# Altium footprint library Miscellaneous Devices.PcbLib: 16 footprints
Each footprint in its own frame and in the unit in brackets; x right, y up, seen from the top. Pads: shape width x height; smd on the part's side, far side on the other; paste and mask are expansions set on the pad; w line width, h text height; cw(c..) or ccw(c..) is an arc to the next point about the centre after c.
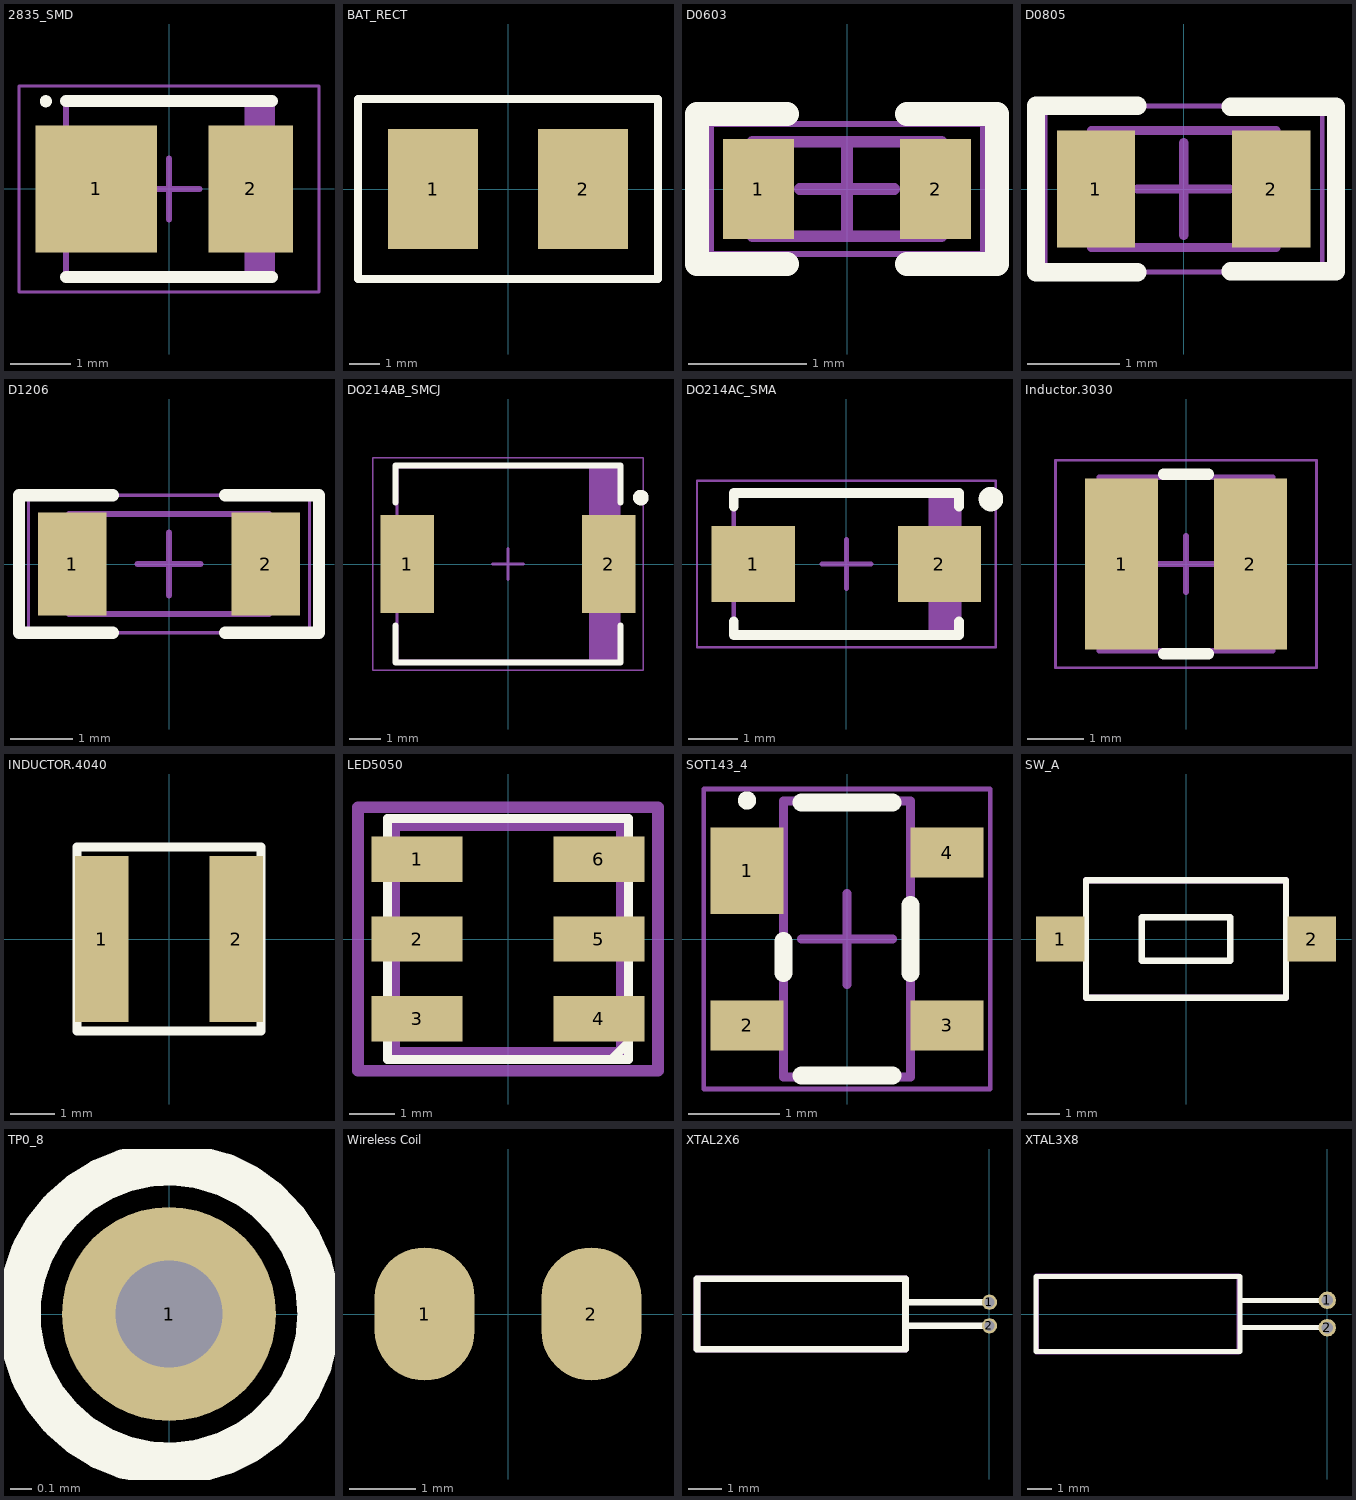
[diagram p0: the footprints below, top view; thin cyan lines are the x and y axes]

## 2835_SMD [mm] "Molded Diode, 2-Leads, Body 3.30x2.80mm, IPC Medium Density"
height 0.75
pads (2):
  rect 2x2.1 smd mask+0.05: 1(-1.2,0)
  rect 1.4x2.1 smd mask+0.05: 2(1.35,0)
Top Overlay:
  circle w0.1: c-2.032,1.448 r0.05
  lines w0.2: -1.7,-1.45 1.7,-1.45 ; -1.7,1.45 1.7,1.45
Mechanical 13:
  rectangle: 1.243,-1.45 1.7,1.45
  lines w0.1: -1.7,-1.45 1.7,-1.45 1.7,1.45 -1.7,1.45 -1.7,-1.45
Mechanical 15:
  lines w0.05: -2.475,-1.7 2.475,-1.7 2.475,1.7 -2.475,1.7 -2.475,-1.7
  lines w0.1: -0.5,0 0.5,0 ; 0,-0.5 0,0.5
3D body: height 0.75, standoff 0, extent -1.7,-1.45 1.7,1.45

## BAT_RECT [mm] "BAT_RECT"
pads (2):
  rect 3x4 smd: 1(-2.5,0) 2(2.5,0)
Top Overlay:
  lines w0.254: -5,-3 -5,3 5,3 5,-3 -5,-3

## D0603 [mm] "D0603"
height 0.5
pads (2):
  rect 0.6x0.85 smd: 1(-0.75,0) 2(0.75,0)
Top Overlay:
  lines w0.2: -0.508,-0.635 -1.27,-0.635 -1.27,0.635 -0.508,0.635 ; 0.508,-0.635 1.27,-0.635 1.27,0.635 0.508,0.635
Mechanical 13:
  lines w0.1: -0.8,-0.4 0.8,-0.4 0.8,0.4 -0.8,0.4 -0.8,-0.4
Mechanical 15:
  lines w0.05: -1.15,-0.55 1.15,-0.55 1.15,0.55 -1.15,0.55 -1.15,-0.55
  lines w0.1: -0.4,0 0.4,0 ; 0,-0.4 0,0.4
3D body: height 0.5, standoff 0, extent 0.5,-0.4 0.8,0.4
3D body: height 0.5, standoff 0, extent -0.8,-0.4 -0.5,0.4
3D body: height 0.5, standoff 0, extent -0.5,-0.4 0.5,0.4

## D0805 [mm] "D0805"
height 1.25
pads (2):
  rect 0.85x1.27 smd: 1(-0.95,0) 2(0.95,0)
Top Overlay:
  lines w0.2: -0.5,-0.9 -1.6,-0.9 -1.6,0.9 -0.5,0.9 ; 0.508,-0.889 1.651,-0.889 1.651,0.889 0.508,0.889
Mechanical 13:
  lines w0.1: -1,-0.635 -1,0.635 1,0.635 1,-0.635 -1,-0.635
Mechanical 15:
  lines w0.05: -1.5,-0.9 -1.5,0.9 1.5,0.9 1.5,-0.9 -1.5,-0.9
  lines w0.1: -0.5,0 0.5,0 ; 0,-0.5 0,0.5
3D body: height 1.25, standoff 0, extent -0.55,-0.635 0.55,0.635
3D body: height 1.25, standoff 0, extent -1,-0.635 -0.55,0.635
3D body: height 1.25, standoff 0, extent 0.55,-0.635 1,0.635

## D1206 [mm] "D1206"
height 1.1
pads (2):
  rect 1.1x1.65 smd: 1(-1.55,0) 2(1.55,0)
Top Overlay:
  lines w0.2: -0.9,-1.1 -2.4,-1.1 -2.4,1.1 -0.9,1.1 ; 0.9,-1.1 2.4,-1.1 2.4,1.1 0.9,1.1
Mechanical 13:
  lines w0.1: -1.6,-0.8 -1.6,0.8 1.6,0.8 1.6,-0.8 -1.6,-0.8
Mechanical 15:
  lines w0.05: -2.25,-1.1 -2.25,1.1 2.25,1.1 2.25,-1.1 -2.25,-1.1
  lines w0.1: -0.5,0 0.5,0 ; 0,-0.5 0,0.5
3D body: height 1.1, standoff 0, extent -1.1,-0.8 1.1,0.8
3D body: height 1.1, standoff 0, extent -1.6,-0.8 -1.1,0.8
3D body: height 1.1, standoff 0, extent 1.1,-0.8 1.6,0.8

## DO214AB_SMCJ [mm] "Molded Diode, 2-Leads, Body 6.85x5.90mm, IPC Medium Density"
height 2.62
pads (2):
  rect 1.7x3.15 smd: 1(-3.225,0) 2(3.225,0)
Top Overlay:
  circle w0.25: c4.25,2.125 r0.125
  lines w0.2: -3.6,-1.975 -3.6,-3.15 3.6,-3.15 3.6,-1.975 ; -3.6,1.975 -3.6,3.15 3.6,3.15 3.6,1.975
Mechanical 13:
  rectangle: 2.599,-3.11 3.555,3.11
  lines w0.1: -3.555,-3.11 3.555,-3.11 3.555,3.11 -3.555,3.11 -3.555,-3.11
Mechanical 15:
  lines w0.05: -4.325,-3.4 4.325,-3.4 4.325,3.4 -4.325,3.4 -4.325,-3.4
  lines w0.1: -0.5,0 0.5,0 ; 0,-0.5 0,0.5
3D body: height 2.62, standoff 0, extent -3.555,-3.11 3.555,3.11

## DO214AC_SMA [mm] "Molded Diode, 2-Leads, Body 4.30x2.70mm, IPC Medium Density"
height 2.5
pads (2):
  rect 1.7x1.55 smd: 1(-1.9,0) 2(1.9,0)
Top Overlay:
  circle w0.25: c2.95,1.325 r0.125
  lines w0.2: -2.3,-1.175 -2.3,-1.45 2.3,-1.45 2.3,-1.175 ; -2.3,1.175 -2.3,1.45 2.3,1.45 2.3,1.175
Mechanical 13:
  rectangle: 1.681,-1.45 2.3,1.45
  lines w0.1: -2.3,-1.45 2.3,-1.45 2.3,1.45 -2.3,1.45 -2.3,-1.45
Mechanical 15:
  lines w0.05: -3.05,-1.7 3.05,-1.7 3.05,1.7 -3.05,1.7 -3.05,-1.7
  lines w0.1: -0.5,0 0.5,0 ; 0,-0.5 0,0.5
3D body: height 2.5, standoff 0, extent -2.3,-1.45 2.3,1.45

## Inductor.3030 [mm] "Molded Inductor, 2-Leads, Body 3.00x3.00mm, IPC Medium Density"
height 1.5
pads (2):
  rect 1.3x3.05 smd: 1(-1.15,0) 2(1.15,0)
Top Overlay:
  lines w0.2: -0.4,-1.6 0.4,-1.6 ; -0.4,1.6 0.4,1.6
Mechanical 13:
  lines w0.1: -1.55,-1.55 1.55,-1.55 1.55,1.55 -1.55,1.55 -1.55,-1.55
Mechanical 15:
  lines w0.05: -2.325,-1.85 2.325,-1.85 2.325,1.85 -2.325,1.85 -2.325,-1.85
  lines w0.1: -0.5,0 0.5,0 ; 0,-0.5 0,0.5
3D body: height 1.5, standoff 0, extent -1.55,-1.55 1.55,1.55

## INDUCTOR.4040 [mm]
height 1.8
pads (2):
  rect 1.2x3.7 smd mask+0.05: 1(-1.5,0) 2(1.5,0)
Top Overlay:
  lines w0.2: -2.05,-2.05 -2.05,2.05 2.05,2.05 2.05,-2.05 -2.05,-2.05

## LED5050 [mm] "LED5050"
height 1.6
pads (6):
  rect 2x1 smd mask+0.05: 1(-2,1.75) 2(-2,0) 3(-2,-1.75) 4(2,-1.75) 5(2,0) 6(2,1.75)
Top Overlay:
  lines w0.2: 2.286,-2.65 2.65,-2.286 ; -2.65,-2.65 -2.65,2.65 2.65,2.65 2.65,-2.65 -2.65,-2.65
Mechanical 13:
  lines w0.254: -2.5,-2.5 2.5,-2.5 2.5,2.5 -2.5,2.5 -2.5,-2.5
Mechanical 15:
  lines w0.254: -3.3,-2.9 3.3,-2.9 3.3,2.9 -3.3,2.9 -3.3,-2.9
3D body: height 1.6, standoff 0, extent -2.5,-2.5 2.5,2.5

## SOT143_4 [mm] "SOT143, 4-Leads, Body 2.92x2.37mm, Pitch 1.90mm, IPC High Density"
height 1.2
pads (4):
  rect 0.8x0.95 smd: 1(-1.1,0.75)
  rect 0.8x0.55 smd: 2(-1.1,-0.95) 3(1.1,-0.95) 4(1.1,0.95)
Top Overlay:
  circle w0.1: c-1.1,1.525 r0.05
  lines w0.2: -0.7,-0.375 -0.7,-0.025 ; -0.5,-1.5 0.5,-1.5 ; -0.5,1.5 0.5,1.5 ; 0.7,-0.375 0.7,0.375
Mechanical 13:
  lines w0.1: -0.7,-1.52 -0.7,1.52 0.7,1.52 0.7,-1.52 -0.7,-1.52
Mechanical 15:
  lines w0.05: -1.575,-1.65 -1.575,1.65 1.575,1.65 1.575,-1.65 -1.575,-1.65
  lines w0.1: -0.5,0 0.5,0 ; 0,-0.5 0,0.5
3D body: height 1.2, standoff 0.15, extent -0.7,-1.52 0.7,1.52

## SW_A [mm] "SMA Switch"
height 2
pads (2):
  rect 1.5x1.4 smd mask+0.05: 1(-3.9,0) 2(3.9,0)
Top Overlay:
  lines w0.2: -3.1,-1.825 3.1,-1.825 3.1,1.825 -3.1,1.825 -3.1,-1.825 ; -1.375,-0.675 1.375,-0.675 1.375,0.675 -1.375,0.675 -1.375,-0.675
Mechanical 13:
  lines w0.2: -3.1,-1.825 -3.1,1.825 3.1,1.825 3.1,-1.825 -3.1,-1.825
3D body: height 2, standoff 0, extent -3.1,-1.825 3.1,1.825

## TP0_8 [mm] "Test Point"
pads (1):
  round 1 hole 0.5 mask+0.05: 1(0,0)
Top Overlay:
  circle w0.2: c0,0 r0.7

## Wireless Coil [mm] "BAT_RECT"
pads (2):
  oval 1.5x2 smd: 1(-1.25,0) 2(1.25,0)

## XTAL2X6 [mm] "XTAL2"
pads (2):
  round 0.45 hole 0.3 mask+0.05: 1(0,0.35) 2(0,-0.35)
Top Overlay:
  lines w0.2: -2.5,-0.35 0,-0.35 ; -2.5,0.35 0,0.35 ; -8.7,-1.05 -8.7,1.05 -2.5,1.05 -2.5,-1.05 -8.7,-1.05
Mechanical 13:
  lines w0.2: -8.7,-1.05 -8.7,1.05 -2.5,1.05 -2.5,-1.05 -8.7,-1.05
3D body: height 2.1, standoff 0, extent -8.7,-1.05 -2.5,1.05

## XTAL3X8 [mm] "XTAL"
pads (2):
  round 0.7 hole 0.45 mask+0.05: 1(0,0.55) 2(0,-0.55)
Top Overlay:
  lines w0.2: -3.5,-0.55 0,-0.55 ; -3.5,0.55 0,0.55 -0.254,0.508 ; -11.7,-1.5 -3.5,-1.5 -3.5,1.5 -11.7,1.5 -11.7,-1.5
Mechanical 13:
  lines w0.2: -11.684,-1.524 -11.684,1.524 -3.556,1.524 -3.556,-1.524 -11.684,-1.524
3D body: height 3, standoff 0, extent -11.684,-1.524 -3.556,1.524